# Altium footprint library PCB - CONNECTOR - WURTH - 691382000003.PcbLib: 1 footprints
Each footprint in its own frame and in the unit in brackets; x right, y up, seen from the top. Pads: shape width x height; smd on the part's side, far side on the other; paste and mask are expansions set on the pad; w line width, h text height; cw(c..) or ccw(c..) is an arc to the next point about the centre after c.
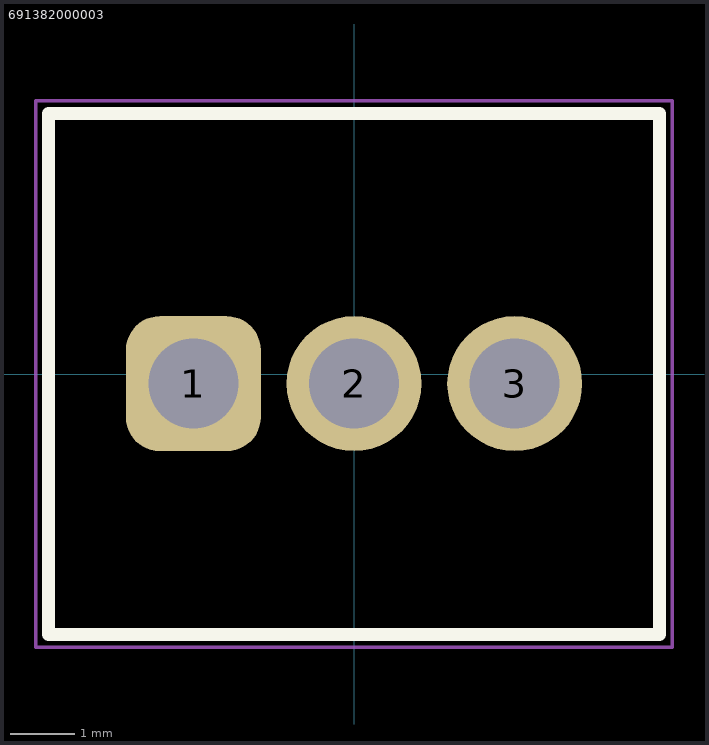
[diagram p0: the footprint, top view; thin cyan lines are the x and y axes]

## 691382000003 [mm] "Vertical PCB Header, pitch 2.5mm, 03p"
height 10.1
pads (3):
  rrect50% 2.1x2.1 hole 1.4: 1(-2.5,-0.15)
  round 2.1 hole 1.4: 2(0,-0.15) 3(2.5,-0.15)
Top Overlay:
  lines w0.2: -4.75,-4.05 -4.75,4.05 4.75,4.05 4.75,-4.05 -4.75,-4.05
Top 3D Body:
  lines w0.1: -4.75,-4.05 4.75,-4.05 4.75,4.05 -4.75,4.05 -4.75,-4.05
Top Assembly:
  lines w0.1: -4.75,-4.05 4.75,-4.05 4.75,4.05 -4.75,4.05 -4.75,-4.05
Top Courtyard:
  lines w0.05: -0.5,0 0.5,0 ; 0,-0.5 0,0.5 ; -4.95,-4.25 4.95,-4.25 4.95,4.25 -4.95,4.25 -4.95,-4.25
Top Designator:
  text ".Designator" at -1.75,-0.75 h1.5
3D body "691382000003.stp": height 10.14, standoff -3.46, extent -4.75,-4.05 4.75,4.05